# Altium integrated library MiniR3.IntLib: 31 symbols
Pins are listed as number, name and electrical type; pins without a type are passive.

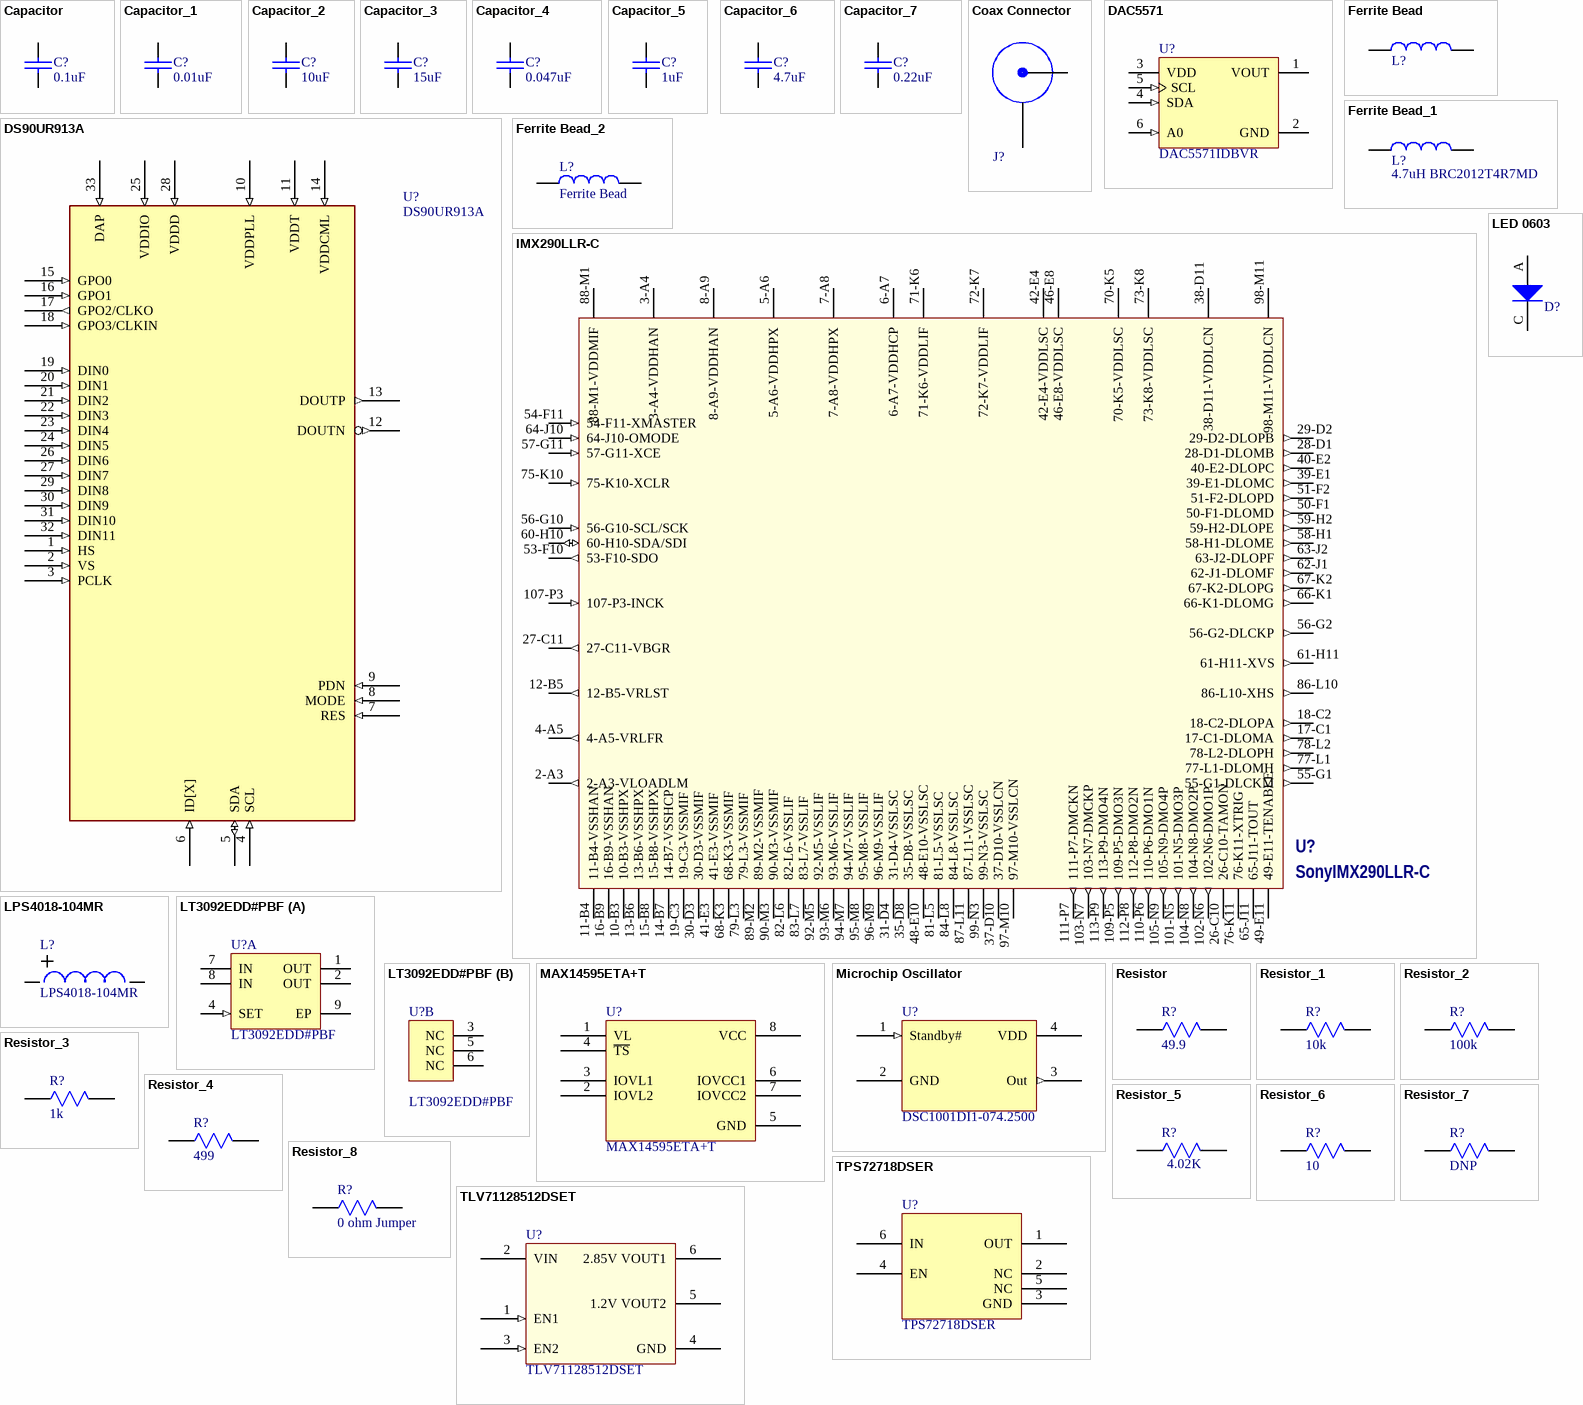
[diagram p0: symbols Capacitor to TPS72718DSER]

## Capacitor
designator C?, comment 0.1uF
Value: C?
footprint SMD Capacitor 0603
footprint SMD CAP 0402 (Chip Capacitor, 2-Leads, Body 1.00x0.50mm, IPC Medium Density)
pins: 0, 1

## Capacitor_1
designator C?, comment 0.01uF
Value: C?
footprint SMD Capacitor 0603
footprint SMD CAP 0402 (Chip Capacitor, 2-Leads, Body 1.00x0.50mm, IPC Medium Density)
pins: 0, 1

## Capacitor_2
designator C?, comment 10uF
Value: C?
footprint SMD Capacitor 0603
footprint SMD CAP 0402 (Chip Capacitor, 2-Leads, Body 1.00x0.50mm, IPC Medium Density)
pins: 0, 1

## Capacitor_3
designator C?, comment 15uF
Value: C?
footprint SMD Capacitor 0603
footprint SMD CAP 0402 (Chip Capacitor, 2-Leads, Body 1.00x0.50mm, IPC Medium Density)
pins: 0, 1

## Capacitor_4
designator C?, comment 0.047uF
Value: C?
footprint SMD Capacitor 0603
footprint SMD CAP 0402 (Chip Capacitor, 2-Leads, Body 1.00x0.50mm, IPC Medium Density)
pins: 0, 1

## Capacitor_5
designator C?, comment 1uF
Value: C?
footprint SMD Capacitor 0603
footprint SMD CAP 0402 (Chip Capacitor, 2-Leads, Body 1.00x0.50mm, IPC Medium Density)
pins: 0, 1

## Capacitor_6
designator C?, comment 4.7uF
Value: C?
footprint SMD Capacitor 0603
footprint SMD CAP 0402 (Chip Capacitor, 2-Leads, Body 1.00x0.50mm, IPC Medium Density)
pins: 0, 1

## Capacitor_7
designator C?, comment 0.22uF
Value: C?
footprint SMD Capacitor 0603
footprint SMD CAP 0402 (Chip Capacitor, 2-Leads, Body 1.00x0.50mm, IPC Medium Density)
pins: 0, 1

## Coax Connector
designator J?  (value not drawn)
footprint MMCX SMD Molex (Coax Connector SMD MMCX Vertical)
footprint SSMCX Throughhole Molex (0734130050)
footprint SSMCX EDGE (SSMCX EDGE 0734154670)
footprint Coax Direct Solder ThroughHoles
pins: 0, 1

## DAC5571
designator U?, comment DAC5571IDBVR
footprint DBV
pins: 1 VOUT (hiz) "Analog output voltage from DAC", 2 GND (power) "Ground reference point for all circuitry on the part", 3 VDD (power) "Analog Voltage Supply Input", 4 SDA (in) "Serial Data Input", 5 SCL (in) "Serial Clock Input", 6 A0 (in) "Device Address Select"

## DS90UR913A
designator U?
DS90UR913ASERIALIZER
footprint WQFN32 for DS90UB913A (QFN, 32-Leads, Body 5.00x5.00mm, Pitch 0.50mm, Thermal Pad 3.10x3.10mm, IPC Medium Density)
pins: 1 HS (in), 2 VS (in), 3 PCLK (in), 4 SCL (in), 5 SDA (io), 6 ID[X] (in), 7 RES (in), 8 MODE (in), 9 PDN (in), 10 VDDPLL (in), 11 VDDT (in), 12 DOUTN (out), 13 DOUTP (out), 14 VDDCML (in), 15 GPO0 (in), 16 GPO1 (in), 17 GPO2/CLKO (out), 18 GPO3/CLKIN (in), 19 DIN0 (in), 20 DIN1 (in), 21 DIN2 (in), 22 DIN3 (in), 23 DIN4 (in), 24 DIN5 (in), 25 VDDIO (in), 26 DIN6 (in), 27 DIN7 (in), 28 VDDD (in), 29 DIN8 (in), 30 DIN9 (in), 31 DIN10 (in), 32 DIN11 (in), 33 DAP (in)

## Ferrite Bead
designator L?  (value not drawn)
footprint MPZ2012S601A (Ferrite Chip 600Ohm)
footprint BLM21PG221SN1D_0805 (Chip Inductor, 2-Leads, 0805, BLM21PG221SN1D)
footprint BLM18KG601SN1D (0603 Ferrite Chip 600OHM 1.3A)
footprint BLM18KG601SN1D
pins: 1, 2

## Ferrite Bead_1
designator L?, comment 4.7uH BRC2012T4R7MD
BRC2012T4R7MD
footprint MPZ2012S601A (Ferrite Chip 600Ohm)
footprint BLM21PG221SN1D_0805 (Chip Inductor, 2-Leads, 0805, BLM21PG221SN1D)
footprint BLM18KG601SN1D (0603 Ferrite Chip 600OHM 1.3A)
footprint LQM21PN2R2MC0D (SMD Fixed Ind. 2.2uH, 600mA, 0805)
footprint CIG21L4R7MNE (SMD 0805 4.7uH, 750mA)
footprint CBC3225T101MR (Chip Inductor, 2-Leads, Body 3.20x2.50mm, IPC Medium Density, 100uH, 340mA, 1.82OHM)
footprint CIG21L4R7MNE
pins: 1, 2

## Ferrite Bead_2
designator L?, comment Ferrite Bead
footprint Ferrite Bead 402
pins: 1, 2

## IMX290LLR-C
designator U?, comment SonyIMX290LLR-C
Sony Image Sensor
footprint 110-LGA - Thin
pins: 1-A1 1-A1-N.C. hidden to GND, 2-A3 2-A3-VLOADLM (out), 3-A4 3-A4-VDDHAN (power), 4-A5 4-A5-VRLFR (out), 5-A6 5-A6-VDDHPX (power), 6-A7 6-A7-VDDHCP (power), 7-A8 7-A8-VDDHPX (power), 8-A9 8-A9-VDDHAN (power), 9-A11 9-A11-N.C. hidden to GND, 10-B3 10-B3-VSSHPX (power), 11-B4 11-B4-VSSHAN (power), 12-B5 12-B5-VRLST (out), 13-B6 13-B6-VSSHPX (power), 14-B7 14-B7-VSSHCP (power), 15-B8 15-B8-VSSHPX (power), 16-B9 16-B9-VSSHAN (power), 17-C1 17-C1-DLOMA (out), 18-C2 18-C2-DLOPA (out), 19-C3 19-C3-VSSMIF (power), 20-C4 20-C4-N.C. hidden to GND, 21-C5 21-C5-N.C. hidden to GND, 22-C6 22-C6-N.C. hidden to GND, 23-C7 23-C7-N.C. hidden to GND, 24-C8 24-C8-N.C. hidden to GND, 25-C9 25-C9-N.C. hidden to GND, 26-C10 26-C10-TAMON, 27-C11 27-C11-VBGR (out), 28-D1 28-D1-DLOMB (out), 29-D2 29-D2-DLOPB (out), 30-D3 30-D3-VSSMIF (power), 31-D4 31-D4-VSSLSC (power), 32-D5 32-D5-N.C. hidden to GND, 33-D6 33-D6-N.C. hidden to GND, 34-D7 34-D7-N.C. hidden to GND, 35-D8 35-D8-VSSLSC (power), 36-D9 36-D9-N.C. hidden to GND, 37-D10 37-D10-VSSLCN (power), 38-D11 38-D11-VDDLCN (power), 39-E1 39-E1-DLOMC (out), 40-E2 40-E2-DLOPC (out), 41-E3 41-E3-VSSMIF (power), 42-E4 42-E4-VDDLSC (power), 43-E5 43-E5-N.C. hidden to GND, 44-E6 44-E6-N.C. hidden to GND, 45-E7 45-E7-N.C. hidden to GND, 46-E8 46-E8-VDDLSC (power), 47-E9 47-E9-N.C. hidden to GND, 48-E10 48-E10-VSSLSC (power), 49-E11 49-E11-TENABLE, 50-F1 50-F1-DLOMD (out), 51-F2 51-F2-DLOPD (out), 53-F10 53-F10-SDO (out), 54-F11 54-F11-XMASTER (in), 55-G1 55-G1-DLCKM (out), 56-G2 56-G2-DLCKP (out), 56-G10 56-G10-SCL/SCK (in), 57-G11 57-G11-XCE (in), 58-H1 58-H1-DLOME (out), 59-H2 59-H2-DLOPE (out), 60-H10 60-H10-SDA/SDI (io), 61-H11 61-H11-XVS (out), 62-J1 62-J1-DLOMF (out), 63-J2 63-J2-DLOPF (out), 64-J10 64-J10-OMODE (in), 65-J11 65-J11-TOUT, 66-K1 66-K1-DLOMG (out), 67-K2 67-K2-DLOPG (out), 68-K3 68-K3-VSSMIF (power), 69-K4 69-K4-N.C. hidden to GND, 70-K5 70-K5-VDDLSC (power), 71-K6 71-K6-VDDLIF (power), 72-K7 72-K7-VDDLIF (power), 73-K8 73-K8-VDDLSC (power), 74-K9 74-K9-N.C. hidden to GND, 75-K10 75-K10-XCLR (in), 76-K11 76-K11-XTRIG, 77-L1 77-L1-DLOMH (out), 78-L2 78-L2-DLOPH (out), 79-L3 79-L3-VSSMIF (power), 80-L4 80-L4-N.C. hidden to GND, 81-L5 81-L5-VSSLSC (power), 82-L6 82-L6-VSSLIF (power), 83-L7 83-L7-VSSLIF (power), 84-L8 84-L8-VSSLSC (power), 85-L9 85-L9-N.C. hidden to GND, 86-L10 86-L10-XHS (out), 87-L11 87-L11-VSSLSC (power), 88-M1 88-M1-VDDMIF (power), 89-M2 89-M2-VSSMIF (power), 90-M3 90-M3-VSSMIF (power), 91-M4 91-M4-N.C. hidden to GND, 92-M5 92-M5-VSSLIF (power), 93-M6 93-M6-VSSLIF (power), 94-M7 94-M7-VSSLIF (power), 95-M8 95-M8-VSSLIF (power), 96-M9 96-M9-VSSLIF (power), 97-M10 97-M10-VSSLCN (power), 98-M11 98-M11-VDDLCN (power), 99-N3 99-N3-VSSLSC (power), 100-N4 100-N4-N.C. hidden to GND, 101-N5 101-N5-DMO3P (out), 102-N6 102-N6-DMO1P (out), 103-N7 103-N7-DMCKP (out), 104-N8 104-N8-DMO2P (out), 105-N9 105-N9-DMO4P (out), 106-P1 106-P1-N.C. hidden to GND, 107-P3 107-P3-INCK (in), 108-P4 108-P4-N.C. hidden to GND, 109-P5 109-P5-DMO3N (out), 110-P6 110-P6-DMO1N (out), 111-P7 111-P7-DMCKN (out), 112-P8 112-P8-DMO2N (out), 113-P9 113-P9-DMO4N (out), 114-P11 114-P11-N.C. hidden to GND

## LED 0603
designator D?  (value not drawn)
LTST_C195TBJRKT
footprint LED_0603 (LTST-C190KGKT)
pins: A, C

## LPS4018-104MR
designator L?
Coilcraft Inductor
footprint LPS4018-104MR (CoilCraft Inductor)
pins: 1 (power), 2 EN (power)

## LT3092EDD#PBF
designator U?
200 mA Two-Terminal Programmable Current Source, 0.3 mA Isupply, 8-pin SON (DD-8), -40 to 125 degC, Pb-Free; Manufacturer: Linear Technology; Extended Temp: E, I, MP; Initial Accuracy(%): 1; Isupply(mA): 0.3; Output Current Range: 0.5 mA to 200 mA; Vin Max(V): 40; Vin Min(V): 1.2; DatasheetVersion: Rev. B; PackageVersion: Jun-10; PackageReference: DD-8; PackageDescription: 8-Pin Plastic DFN, Body 3 x 3 mm, Pitch 0.5 mm; Supplier 1: Digi-Key; Supplier Part Number 1: LT3092EDD#PBF-ND; Supplier 2: Farnell; Supplier Part Number 2: 2295468; Supplier 3: Newark; Supplier Part Number 3: 72R5810; RoHS: TRUE; Mounting Technology: Surface Mount; Code_JEDEC: MO-229; PartNumber: LT3092EDD#PBF; ComponentLink1Description: Manufacturer URL; ComponentLink1URL: http://www.linear.com/; ComponentLink2Description: Datasheet; ComponentLink2URL: http://cds.linear.com/docs/en/datasheet/3092fb.pdf; ComponentLink3Description: Package Specification; ComponentLink3URL: http://cds.linear.com/docs/en/packaging/DFN_8_05-08-1698.pdf
footprint LT-DD-8_V (SON, 8-Leads, Body 3x3mm, Pitch 0.5mm, Thermal Pad 1.65x2.38 mm, IPC Low Density)
part A pins: 1 OUT (power) "This is the power output of the device. The minimum current source value to which the LT3092 can be set is 0.5mA or the device will not regulate.", 2 OUT (power) "This is the power output of the device. The minimum current source value to which the LT3092 can be set is 0.5mA or the device will not regulate.", 4 SET (in) "This pin is the error amplifier’s noninverting input and also sets the operating bias point of the circuit. A fixed 10uA current source flows out of this pin. Two resistors program IOUT as a function of the resistor rati(See Datasheet)", 7 IN (power) "This pin supplies power to bias internal circuitry and supply output load current. For the device to operate properly and regulate, the voltage on this pin must be 1.2V to 1.4V above the OUT pin (depending on output load (See Datasheet)", 8 IN (power) "This pin supplies power to bias internal circuitry and supply output load current. For the device to operate properly and regulate, the voltage on this pin must be 1.2V to 1.4V above the OUT pin (depending on output load (See Datasheet)", 9 EP (power) "Output. The Exposed Pad of the DFN package and the Tab of the SOT-223 package are tied internally to OUT. Tie them directly to the OUT pins (Pins 1, 2/Pin 2) at the PCB. The amount of copper area and planes connected to OUT (See Datasheet)"
part B pins: 3 NC "No Connection. These pins have no connection to internal circuitry and may be tied to IN, OUT, GND or floated.", 5 NC "No Connection. These pins have no connection to internal circuitry and may be tied to IN, OUT, GND or floated.", 6 NC "No Connection. These pins have no connection to internal circuitry and may be tied to IN, OUT, GND or floated."

## MAX14595ETA+T
designator U?
Level Translator
footprint 8 TDFN
pins: 1 VL, 2 IOVL2, 3 IOVL1, 4 ~{TS}, 5 GND, 6 IOVCC1, 7 IOVCC2, 8 VCC

## Microchip Oscillator
designator U?, comment DSC1001DI1-074.2500
74.25MHz Oscillator
footprint CDFN
pins: 1 Standby# (in), 2 GND (power), 3 Out (out), 4 VDD (power)

## Resistor
designator R?, comment 49.9
Value: ?
footprint SMD Resistor 0603
footprint Thermistor 0402 (NCP15XH103J03RC)
footprint SMD RES 0402
pins: 0, 1

## Resistor_1
designator R?, comment 10k
Value: ?
footprint SMD Resistor 0603
footprint Thermistor 0402 (NCP15XH103J03RC)
footprint SMD RES 0402
pins: 0, 1

## Resistor_2
designator R?, comment 100k
Value: ?
footprint SMD Resistor 0603
footprint Thermistor 0402 (NCP15XH103J03RC)
footprint SMD RES 0402
pins: 0, 1

## Resistor_3
designator R?, comment 1k
Value: ?
footprint SMD Resistor 0603
footprint Thermistor 0402 (NCP15XH103J03RC)
footprint SMD RES 0402
pins: 0, 1

## Resistor_4
designator R?, comment 499
Value: ?
footprint SMD Resistor 0603
footprint Thermistor 0402 (NCP15XH103J03RC)
footprint SMD RES 0402
pins: 0, 1

## Resistor_5
designator R?, comment 4.02K
Value: ?
footprint SMD Resistor 0603
footprint Thermistor 0402 (NCP15XH103J03RC)
footprint SMD RES 0402
pins: 0, 1

## Resistor_6
designator R?, comment 10
Value: ?
footprint SMD Resistor 0603
footprint Thermistor 0402 (NCP15XH103J03RC)
footprint SMD RES 0402
pins: 0, 1

## Resistor_7
designator R?, comment DNP
Value: ?
footprint SMD Resistor 0603
footprint Thermistor 0402 (NCP15XH103J03RC)
footprint SMD RES 0402
pins: 0, 1

## Resistor_8
designator R?, comment 0 ohm Jumper
Value: ?
footprint SMD Resistor 0603
footprint Thermistor 0402 (NCP15XH103J03RC)
footprint SMD RES 0402
pins: 0, 1

## TLV71128512DSET
designator U?
Dual 2.85V and 1.2V Linear Regulator
footprint DSE
pins: 1 EN1 (in), 2 VIN (power), 3 EN2 (in), 4 GND (power), 5 1.2V VOUT2 (power), 6 2.85V VOUT1 (power)

## TPS72718DSER
designator U?
Single 1.8V Linear Regulator
footprint DSE
pins: 1 OUT (power), 2 NC, 3 GND (power), 4 EN (power), 5 NC (power), 6 IN (power)